# Altium footprint library InterfaceICs.PcbLib: 2 footprints
Each footprint in its own frame and in the unit in brackets; x right, y up, seen from the top. Pads: shape width x height; smd on the part's side, far side on the other; paste and mask are expansions set on the pad; w line width, h text height; cw(c..) or ccw(c..) is an arc to the next point about the centre after c.
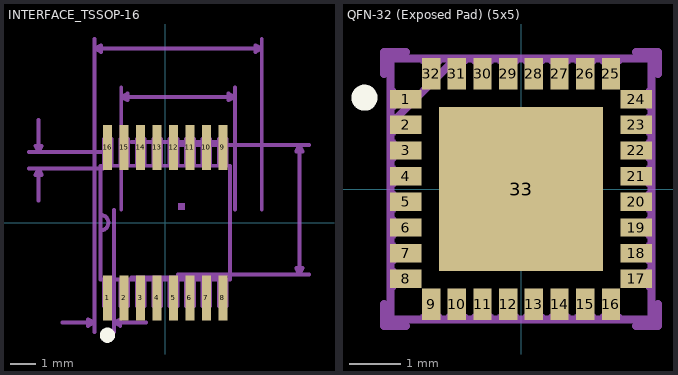
[diagram p0: the footprints below, top view; thin cyan lines are the x and y axes]

## INTERFACE_TSSOP-16 [mil]
pads (16):
  rect 14x70 smd: 1(-89.57,-117) 2(-63.98,-117) 3(-38.39,-117) 4(-12.8,-117) 5(12.8,-117) 6(38.39,-117) 7(63.98,-117) 8(89.57,-117) 9(89.57,117) 10(63.98,117) 11(38.39,117) 12(12.8,117) 13(-12.8,117) 14(-38.39,117) 15(-63.98,117) 16(-89.57,117)
Top Overlay:
  circle w11.81: c-90,-175 r5.91
Assembly Top:
  lines w6: -100.5,-12 ccw(c-100.5,0) -100.5,12 ; -100.5,-88.5 -100.5,88.5 100.5,88.5 100.5,-88.5 -100.5,-88.5 ; -95.57,-130 -95.57,-88.5 -83.57,-88.5 -83.57,-130 -95.57,-130 ; -95.57,88.5 -83.57,88.5 -83.57,130 -95.57,130 -95.57,88.5 ; -69.98,-130 -69.98,-88.5 -57.98,-88.5 -57.98,-130 -69.98,-130 ; -69.98,88.5 -57.98,88.5 -57.98,130 -69.98,130 -69.98,88.5 ; -44.39,-130 -44.39,-88.5 -32.39,-88.5 -32.39,-130 -44.39,-130 ; -44.39,88.5 -32.39,88.5 -32.39,130 -44.39,130 -44.39,88.5 ; -18.8,-130 -18.8,-88.5 -6.8,-88.5 -6.8,-130 -18.8,-130 ; -18.8,88.5 -6.8,88.5 -6.8,130 -18.8,130 -18.8,88.5 ; 6.8,-130 6.8,-88.5 18.8,-88.5 18.8,-130 6.8,-130 ; 6.8,88.5 18.8,88.5 18.8,130 6.8,130 6.8,88.5 ; 32.39,-130 32.39,-88.5 44.39,-88.5 44.39,-130 32.39,-130 ; 32.39,88.5 44.39,88.5 44.39,130 32.39,130 32.39,88.5 ; 57.98,-130 57.98,-88.5 69.98,-88.5 69.98,-130 57.98,-130 ; 57.98,88.5 69.98,88.5 69.98,130 57.98,130 57.98,88.5 ; 83.57,-130 83.57,-88.5 95.57,-88.5 95.57,-130 83.57,-130 ; 83.57,88.5 95.57,88.5 95.57,130 83.57,130 83.57,88.5
Mechanical 22:
  region: 20,20 30,20 30,30 20,30
  lines w6: -52.42,-85.5 92.42,-85.5 ; -52.42,125.5 92.42,125.5
Mechanical 34:
  lines w6: -212,83.98 -97,83.98 ; -212,109.57 -97,109.57 ; -197,33.98 -197,83.98 ; -197,159.57 -197,109.57 ; -160,-155.5 -110,-155.5 ; -110,-170.5 -110,20 -110,285.5 ; -80,-170.5 -80,20 ; -68.5,20 -68.5,210.5 ; -30,-155.5 -80,-155.5 ; 20,-80.5 223.5,-80.5 ; 20,120.5 223.5,120.5 ; 108.5,20 108.5,210.5 ; 150,20 150,285.5 ; -197,83.98 -202,73.98 -192,73.98 -197,83.98 ; -197,109.57 -202,119.57 -192,119.57 -197,109.57 ; -110,-155.5 -120,-150.5 -120,-160.5 -110,-155.5 ; -110,270.5 150,270.5 ; -110,270.5 -100,275.5 -100,265.5 -110,270.5 ; -80,-155.5 -70,-150.5 -70,-160.5 -80,-155.5 ; -68.5,195.5 108.5,195.5 ; -68.5,195.5 -58.5,200.5 -58.5,190.5 -68.5,195.5 ; 108.5,195.5 98.5,200.5 98.5,190.5 108.5,195.5 ; 150,270.5 140,275.5 140,265.5 150,270.5 ; 208.5,-80.5 208.5,120.5 ; 208.5,-80.5 203.5,-70.5 213.5,-70.5 208.5,-80.5 ; 208.5,120.5 203.5,110.5 213.5,110.5 208.5,120.5
3D body: height 44.49, standoff 0, extent -98.43,-125.98 98.42,125.99

## QFN-32 (Exposed Pad) (5x5) [mil]
pads (33):
  rect 24x14 smd: 1(-88.43,68.9) 2(-88.43,49.21) 3(-88.43,29.53) 4(-88.43,9.84) 5(-88.43,-9.84) 6(-88.43,-29.53) 7(-88.43,-49.21) 8(-88.43,-68.9) 17(88.43,-68.9) 18(88.43,-49.21) 19(88.43,-29.53) 20(88.43,-9.84) 21(88.43,9.84) 22(88.43,29.53) 23(88.43,49.21) 24(88.43,68.9)
  rect 14x24 smd: 9(-68.9,-88.43) 10(-49.21,-88.43) 11(-29.53,-88.43) 12(-9.84,-88.43) 13(9.84,-88.43) 14(29.53,-88.43) 15(49.21,-88.43) 16(68.9,-88.43) 25(68.9,88.43) 26(49.21,88.43) 27(29.53,88.43) 28(9.84,88.43) 29(-9.84,88.43) 30(-29.53,88.43) 31(-49.21,88.43) 32(-68.9,88.43)
  rect 126x126 smd paste+0: 33(0,0)
Top Overlay:
  circle w10: c-120,70 r5
Top Paste:
  region: 0,0 10,0 10,10 0,10
  region: 0,0 10,0 10,10 0,10
  region: 0,0 10,0 10,10 0,10
  region: 0,0 10,0 10,10 0,10
Assembly Top:
  lines w6: -100,50 -50,100 ; -100,-100 -100,100 100,100 100,-100 -100,-100 ; -100,-74.9 -98.43,-74.9 -98.43,-62.9 -100,-62.9 -100,-74.9 ; -100,-55.21 -98.43,-55.21 -98.43,-43.21 -100,-43.21 -100,-55.21 ; -100,-35.53 -98.43,-35.53 -98.43,-23.53 -100,-23.53 -100,-35.53 ; -100,-15.84 -98.43,-15.84 -98.43,-3.84 -100,-3.84 -100,-15.84 ; -100,3.84 -98.43,3.84 -98.43,15.84 -100,15.84 -100,3.84 ; -100,23.53 -98.43,23.53 -98.43,35.53 -100,35.53 -100,23.53 ; -100,43.21 -98.43,43.21 -98.43,55.21 -100,55.21 -100,43.21 ; -100,62.9 -98.43,62.9 -98.43,74.9 -100,74.9 -100,62.9 ; -74.9,-100 -74.9,-98.43 -62.9,-98.43 -62.9,-100 -74.9,-100 ; -74.9,98.43 -74.9,100 -62.9,100 -62.9,98.43 -74.9,98.43 ; -55.21,-100 -55.21,-98.43 -43.21,-98.43 -43.21,-100 -55.21,-100 ; -55.21,98.43 -55.21,100 -43.21,100 -43.21,98.43 -55.21,98.43 ; -35.53,-100 -35.53,-98.43 -23.53,-98.43 -23.53,-100 -35.53,-100 ; -35.53,98.43 -35.53,100 -23.53,100 -23.53,98.43 -35.53,98.43 ; -15.84,-100 -15.84,-98.43 -3.84,-98.43 -3.84,-100 -15.84,-100 ; -15.84,98.43 -15.84,100 -3.84,100 -3.84,98.43 -15.84,98.43 ; 3.84,-100 3.84,-98.43 15.84,-98.43 15.84,-100 3.84,-100 ; 3.84,98.43 3.84,100 15.84,100 15.84,98.43 3.84,98.43 ; 23.53,-100 23.53,-98.43 35.53,-98.43 35.53,-100 23.53,-100 ; 23.53,98.43 23.53,100 35.53,100 35.53,98.43 23.53,98.43 ; 43.21,-100 43.21,-98.43 55.21,-98.43 55.21,-100 43.21,-100 ; 43.21,98.43 43.21,100 55.21,100 55.21,98.43 43.21,98.43 ; 62.9,-100 62.9,-98.43 74.9,-98.43 74.9,-100 62.9,-100 ; 62.9,98.43 62.9,100 74.9,100 74.9,98.43 62.9,98.43 ; 98.43,-74.9 98.43,-62.9 100,-62.9 100,-74.9 98.43,-74.9 ; 98.43,-55.21 98.43,-43.21 100,-43.21 100,-55.21 98.43,-55.21 ; 98.43,-35.53 98.43,-23.53 100,-23.53 100,-35.53 98.43,-35.53 ; 98.43,-15.84 98.43,-3.84 100,-3.84 100,-15.84 98.43,-15.84 ; 98.43,3.84 98.43,15.84 100,15.84 100,3.84 98.43,3.84 ; 98.43,23.53 98.43,35.53 100,35.53 100,23.53 98.43,23.53 ; 98.43,43.21 98.43,55.21 100,55.21 100,43.21 98.43,43.21 ; 98.43,62.9 98.43,74.9 100,74.9 100,62.9 98.43,62.9
Mechanical 22:
  region: 0,0 10,0 10,10 0,10
  region: 0,0 10,0 10,10 0,10
  lines w6: -105,-88.17 -105,-105 -88.17,-105 ; -105,88.17 -105,105 -88.17,105 ; 88.17,-105 105,-105 105,-88.17 ; 88.17,105 105,105 105,88.17
3D body: height 65.12, standoff 0, extent -100,-100 100,100